# Altium footprint library RESC2012X50N.PcbLib: 1 footprints
Each footprint in its own frame and in the unit in brackets; x right, y up, seen from the top. Pads: shape width x height; smd on the part's side, far side on the other; paste and mask are expansions set on the pad; w line width, h text height; cw(c..) or ccw(c..) is an arc to the next point about the centre after c.
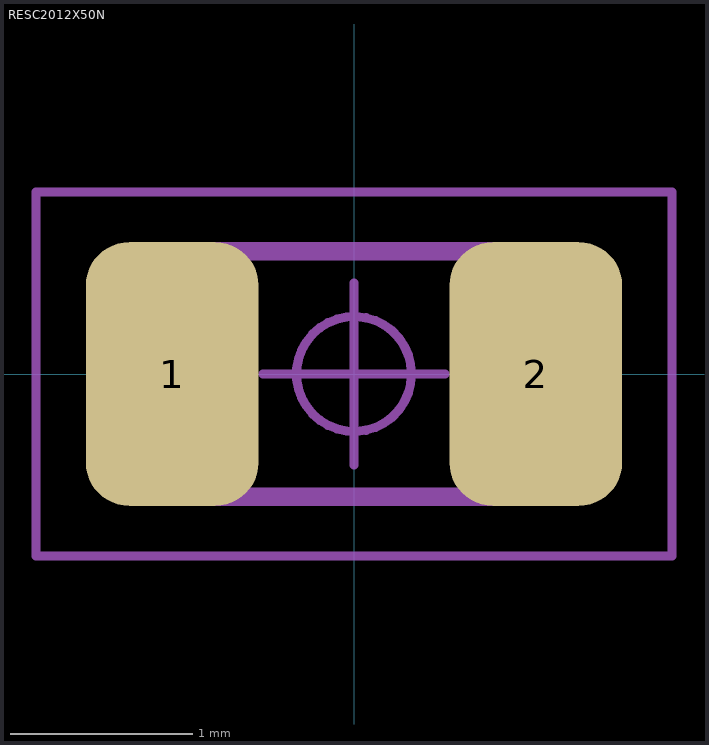
[diagram p0: the footprint, top view; thin cyan lines are the x and y axes]

## RESC2012X50N [mm]
pads (2):
  rrect50% 0.95x1.45 smd: 1(-1,0) 2(1,0)
Mechanical 13:
  lines w0.001: -1.1,-0.675 -1.1,0.675 1.1,0.675 1.1,-0.675 -1.1,-0.675
  lines w0.1: -1.1,-0.675 -1.1,0.675 1.1,0.675 1.1,-0.675 -1.1,-0.675
Mechanical 15:
  circle w0.05: c0,0 r0.316
  lines w0.05: -0.5,0 0.5,0 ; 0,-0.5 0,0.5 ; -1.75,-1 -1.75,1 1.75,1 1.75,-1 -1.75,-1
3D body: height 0.5, standoff 0.05, extent -1.1,-0.675 -0.6,0.675
3D body: height 0.5, standoff 0.05, extent -0.6,-0.675 0.6,0.675
3D body: height 0.5, standoff 0.05, extent 0.6,-0.675 1.1,0.675